# Altium schematic symbol library MD1213K6-G.SchLib: 1 symbol
Pins are listed as number, name and electrical type; pins without a type are passive.

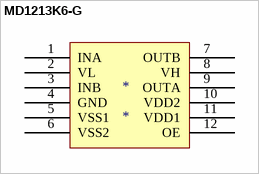
[diagram p0: symbol MD1213K6-G]

## MD1213K6-G
designator *
pins: 1 INA, 2 VL, 3 INB, 4 GND, 5 VSS1, 6 VSS2, 7 OUTB, 8 VH, 9 OUTA, 10 VDD2, 11 VDD1, 12 OE